# Altium footprint library Diodes.PcbLib: 5 footprints
Each footprint in its own frame and in the unit in brackets; x right, y up, seen from the top. Pads: shape width x height; smd on the part's side, far side on the other; paste and mask are expansions set on the pad; w line width, h text height; cw(c..) or ccw(c..) is an arc to the next point about the centre after c.
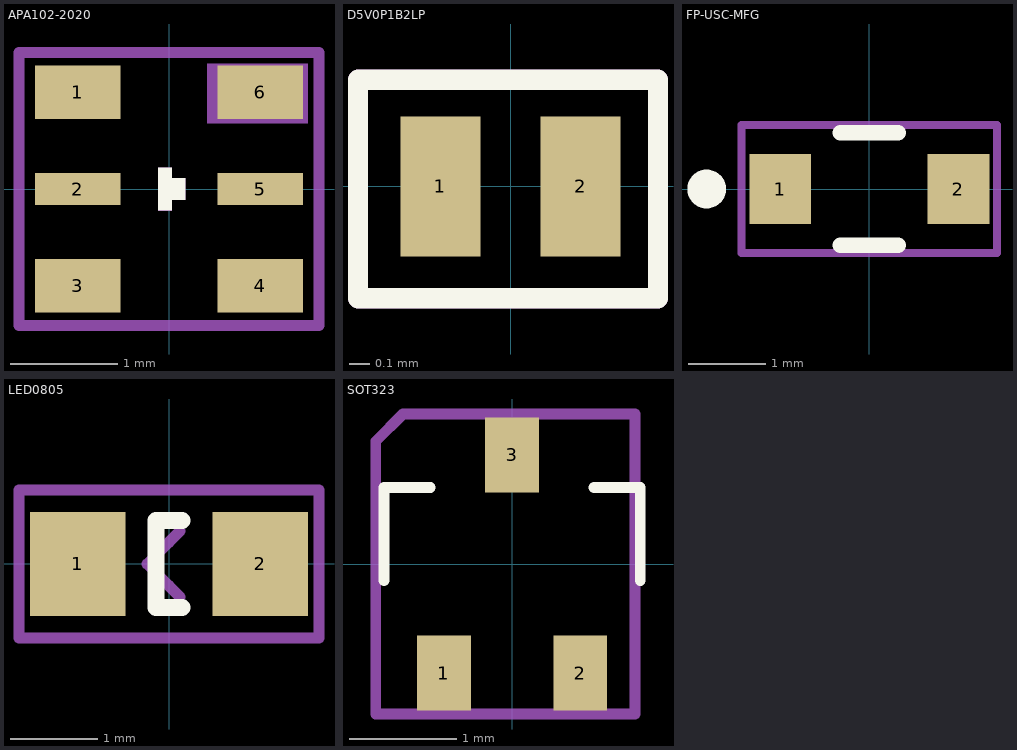
[diagram p0: the footprints below, top view; thin cyan lines are the x and y axes]

## APA102-2020 [mm]
pads (6):
  rect 0.8x0.5 smd mask+0.1: 1(-0.85,0.9) 3(-0.85,-0.9) 4(0.85,-0.9) 6(0.85,0.9)
  rect 0.8x0.3 smd mask+0.1: 2(-0.85,0) 5(0.85,0)
Top Overlay:
  region: -0.1,0.2 0.025,0.2 0.025,0.1 0.15,0.1 0.15,-0.1 0.025,-0.1 0.025,-0.2 -0.1,-0.2
Assembly:
  rectangle: 0.356,0.61 1.295,1.168
  region: -0.1,0.198 0.025,0.198 0.025,0.098 0.15,0.098 0.15,-0.102 0.025,-0.102 0.025,-0.202 -0.1,-0.202
  lines w0.102: -1.397,-1.27 1.397,-1.27 1.397,1.27 -1.397,1.27 -1.397,-1.27
  text "'.Designator'" at -1.016,-0.762 h1.02
3D body: height 1, standoff 0.9, extent 0.002,0 0.4,0.4
3D body: height 0.9, standoff 0, extent -1,-1 1,1
3D body: height 1, standoff 0.9, extent -0.398,0 0,0.4
3D body: height 1, standoff 0.9, extent -0.4,-0.398 0,0

## D5V0P1B2LP [mm]
pads (2):
  rect 0.4x0.7 smd mask+0.025: 1(-0.35,0) 2(0.35,0)
Top Overlay:
  lines w0.102: -0.762,-0.559 -0.762,0.533 0.737,0.533 0.737,-0.559 -0.762,-0.559
Assembly:
  lines w0.102: -0.762,-0.559 -0.762,0.533 0.737,0.533 0.737,-0.559 -0.762,-0.559
  text "'.Designator'" at -1.116,-0.362 h0.76
3D body: height 0.5, standoff 0, extent -0.5,-0.3 0.5,0.3

## FP-USC-MFG [mm]
pads (2):
  rect 0.8x0.9 smd paste+0 mask+0: 1(-1.15,0) 2(1.15,0)
Top Overlay:
  circle w0.25: c-2.1,0 r0.125
  lines w0.2: -0.375,-0.725 0.375,-0.725 ; -0.375,0.725 0.375,0.725
Assembly:
  lines w0.102: -1.65,-0.825 1.65,-0.825 1.65,0.825 -1.65,0.825 -1.65,-0.825
  text "'.Designator'" at -1.016,-0.508 h1.02
3D body "Diode_Toshiba_CUS520_H3F_eec.STEP": height 1.1, standoff 0, extent -1.25,-0.643 1.25,0.643

## LED0805 [mm]
pads (2):
  rect 1.1x1.2 smd: 1(-1.05,0) 2(1.05,0)
Top Overlay:
  lines w0.2: 0.15,-0.5 -0.15,-0.5 -0.15,0.5 0.15,0.5
Assembly:
  lines w0.127: 0.127,-0.381 0,-0.254 0,-0.25 -0.25,0 0,0.25 0,0.254 0.127,0.381 ; -1.725,-0.85 1.725,-0.85 1.725,0.85 -1.725,0.85 -1.725,-0.85
  text "'.Designator'" at 0.127,-0.381 h1.02
3D body "WL-SMCW_0805_LED.stp": height 0.68, standoff -0.02, extent -1,-0.625 1,0.625

## SOT323 [mm]
pads (3):
  rect 0.5x0.7 smd mask+0.02: 1(-0.635,-1.016) 2(0.635,-1.016) 3(0,1.016)
Top Overlay:
  lines w0.102: -1.194,-0.152 -1.194,0.711 -0.762,0.711 ; 0.762,0.711 1.194,0.711 1.194,-0.152
Assembly:
  lines w0.102: -1.27,-1.397 -1.27,1.143 -1.016,1.397 1.143,1.397 1.143,-1.397 -1.27,-1.397
  text "'.Designator'" at -1.016,-0.889 h1.52
3D body "sot-323.step": height 1, standoff 0, extent -1.05,-1.15 1.05,1.15